# Altium footprint library NFBGA.PcbLib: 1 footprints
Each footprint in its own frame and in the unit in brackets; x right, y up, seen from the top. Pads: shape width x height; smd on the part's side, far side on the other; paste and mask are expansions set on the pad; w line width, h text height; cw(c..) or ccw(c..) is an arc to the next point about the centre after c.
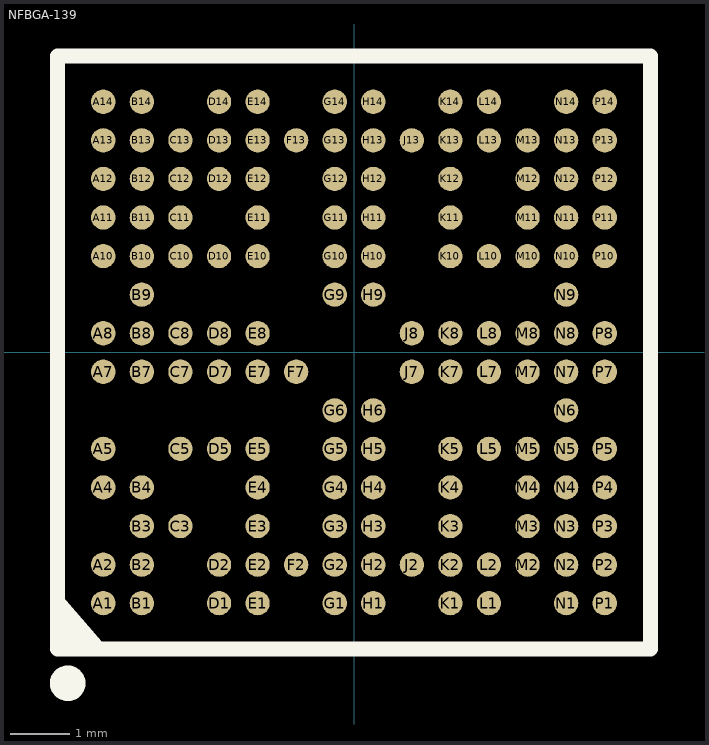
[diagram p0: the footprint, top view; thin cyan lines are the x and y axes]

## NFBGA-139 [mm]
pads (139):
  round 0.41 smd mask+0.051: A1(-4.225,-4.225) A2(-4.225,-3.575) A4(-4.225,-2.275) A5(-4.225,-1.625) A7(-4.225,-0.325) A8(-4.225,0.325) A10(-4.225,1.625) A11(-4.225,2.275) A12(-4.225,2.925) A13(-4.225,3.575) A14(-4.225,4.225) B1(-3.575,-4.225) B2(-3.575,-3.575) B3(-3.575,-2.925) B4(-3.575,-2.275) B7(-3.575,-0.325) B8(-3.575,0.325) B9(-3.575,0.975) B10(-3.575,1.625) B11(-3.575,2.275) B12(-3.575,2.925) B13(-3.575,3.575) B14(-3.575,4.225) C3(-2.925,-2.925) C5(-2.925,-1.625) C7(-2.925,-0.325) C8(-2.925,0.325) C10(-2.925,1.625) C11(-2.925,2.275) C12(-2.925,2.925) C13(-2.925,3.575) D1(-2.275,-4.225) D2(-2.275,-3.575) D5(-2.275,-1.625) D7(-2.275,-0.325) D8(-2.275,0.325) D10(-2.275,1.625) D12(-2.275,2.925) D13(-2.275,3.575) D14(-2.275,4.225) E1(-1.625,-4.225) E2(-1.625,-3.575) E3(-1.625,-2.925) E4(-1.625,-2.275) E5(-1.625,-1.625) E7(-1.625,-0.325) E8(-1.625,0.325) E10(-1.625,1.625) E11(-1.625,2.275) E12(-1.625,2.925) E13(-1.625,3.575) E14(-1.625,4.225) F2(-0.975,-3.575) F7(-0.975,-0.325) F13(-0.975,3.575) G1(-0.325,-4.225) G2(-0.325,-3.575) G3(-0.325,-2.925) G4(-0.325,-2.275) G5(-0.325,-1.625) G6(-0.325,-0.975) G9(-0.325,0.975) G10(-0.325,1.625) G11(-0.325,2.275) G12(-0.325,2.925) G13(-0.325,3.575) G14(-0.325,4.225) H1(0.325,-4.225) H2(0.325,-3.575) H3(0.325,-2.925) H4(0.325,-2.275) H5(0.325,-1.625) H6(0.325,-0.975) H9(0.325,0.975) H10(0.325,1.625) H11(0.325,2.275) H12(0.325,2.925) H13(0.325,3.575) H14(0.325,4.225) J2(0.975,-3.575) J7(0.975,-0.325) J8(0.975,0.325) J13(0.975,3.575) K1(1.625,-4.225) K2(1.625,-3.575) K3(1.625,-2.925) K4(1.625,-2.275) K5(1.625,-1.625) K7(1.625,-0.325) K8(1.625,0.325) K10(1.625,1.625) K11(1.625,2.275) K12(1.625,2.925) K13(1.625,3.575) K14(1.625,4.225) L1(2.275,-4.225) L2(2.275,-3.575) L5(2.275,-1.625) L7(2.275,-0.325) L8(2.275,0.325) L10(2.275,1.625) L13(2.275,3.575) L14(2.275,4.225) M2(2.925,-3.575) M3(2.925,-2.925) M4(2.925,-2.275) M5(2.925,-1.625) M7(2.925,-0.325) M8(2.925,0.325) M10(2.925,1.625) M11(2.925,2.275) M12(2.925,2.925) M13(2.925,3.575) N1(3.575,-4.225) N2(3.575,-3.575) N3(3.575,-2.925) N4(3.575,-2.275) N5(3.575,-1.625) N6(3.575,-0.975) N7(3.575,-0.325) N8(3.575,0.325) N9(3.575,0.975) N10(3.575,1.625) N11(3.575,2.275) N12(3.575,2.925) N13(3.575,3.575) N14(3.575,4.225) P1(4.225,-4.225) P2(4.225,-3.575) P3(4.225,-2.925) P4(4.225,-2.275) P5(4.225,-1.625) P7(4.225,-0.325) P8(4.225,0.325) P10(4.225,1.625) P11(4.225,2.275) P12(4.225,2.925) P13(4.225,3.575) P14(4.225,4.225)
Top Overlay:
  circle w0.3: c-4.825,-5.575 r0.15
  lines w0.254: -5,-4.2 -4.35,-4.95 ; -4.975,-4.525 -4.625,-4.925 ; -4.625,-4.925 -5,-4.75 -4.625,-4.925 ; -5,-5 5,-5 5,5 -5,5 -5,-5